# EAGLE library part LT1512 (library RalimTek)
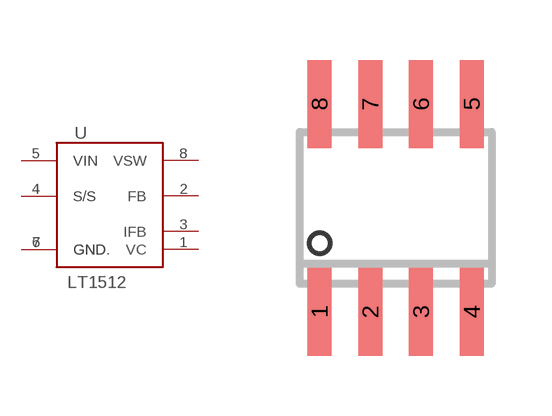
[diagram p4: symbol with the pads of SOIC8; footprint SOIC8]

Designator prefix -

## LT1512SOIC8  [SOIC8]
1  VC
2  FB
3  IFB
4  S/S
5  VIN
6  GND
7  GND.
8  VSW

## Footprint SOIC8 (pad centres in mm)
Small Outline IC
smd 0.6 x 2.2: 1 -1.905,-2.6; 2 -0.635,-2.6; 3 0.635,-2.6; 4 1.905,-2.6; 5 1.905,2.6; 6 0.635,2.6; 7 -0.635,2.6; 8 -1.905,2.6